# EAGLE library part MIC20*6 (library Microchip)
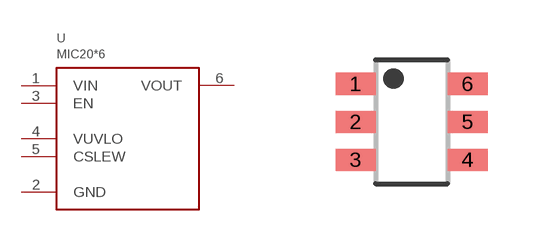
[diagram p23: symbol with the pads of SOT23-6; footprint SOT23-6]

Designator prefix U

## MIC2006, MIC2016  [SOT23-6]
1  VIN
2  GND
3  EN
4  VUVLO
5  CSLEW
6  VOUT

## Footprint SOT23-6 (pad centres in mm)
smd 1 x 0.55: 1 -1.4,0.95; 2 -1.4,0; 3 -1.4,-0.95; 4 1.4,-0.95; 5 1.4,0; 6 1.4,0.95